# EAGLE library part LTC6904* (library linear-technology)
1kHz - 68MHz Serial Port Programmable Oscillator I²C Interface
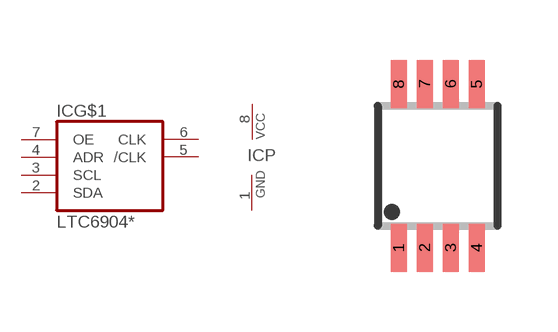
[diagram p48: symbol with the pads of MSOP8; footprint MSOP8]

Designator prefix IC; gates G$1=LTC6904 P=PWRN-C-G

## LTC6904CMS8, LTC6904HMS8, LTC6904IMS8  [MSOP8]
1  P:GND  pwr
2  G$1:SDA  in
3  G$1:SCL  in
4  G$1:ADR  in
5  G$1:/CLK  hiz
6  G$1:CLK  hiz
7  G$1:OE  in
8  P:VCC  pwr

## Footprint MSOP8 (pad centres in mm)
MSOP8
smd 0.4 x 1.2: 1 -0.975,-2.05; 2 -0.325,-2.05; 3 0.325,-2.05; 4 0.975,-2.05; 5 0.975,2.05; 6 0.325,2.05; 7 -0.325,2.05; 8 -0.975,2.05